# Altium footprint library USB_micro_AB_2040002-1.PcbLib: 1 footprints
Each footprint in its own frame and in the unit in brackets; x right, y up, seen from the top. Pads: shape width x height; smd on the part's side, far side on the other; paste and mask are expansions set on the pad; w line width, h text height; cw(c..) or ccw(c..) is an arc to the next point about the centre after c.
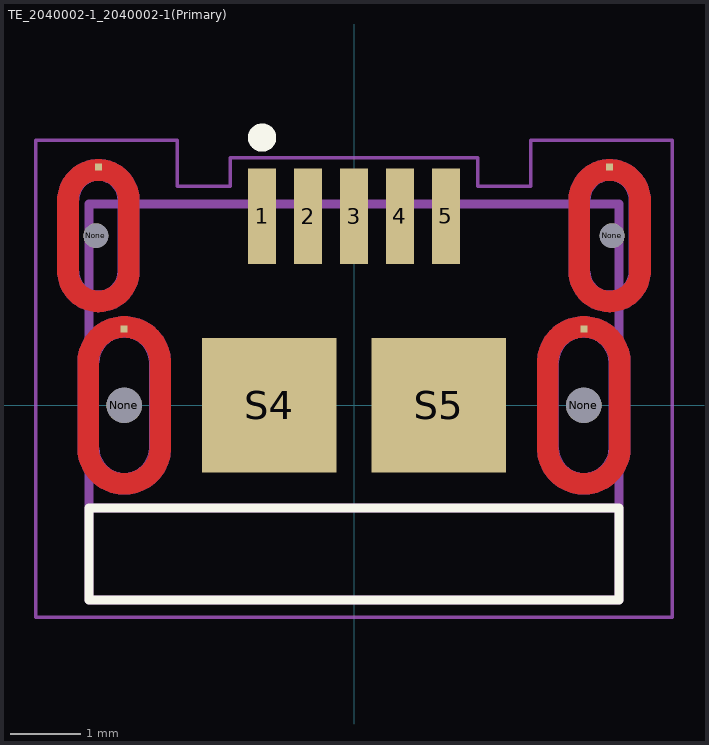
[diagram p0: the footprint, top view; thin cyan lines are the x and y axes]

## TE_2040002-1_2040002-1(Primary) [mm]
pads (15):
  rect 0.4x1.35 smd: 1(-1.3,2.675) 2(-0.65,2.675) 3(0,2.675) 4(0.65,2.675) 5(1.3,2.675)
  round 0.35 hole 0.35 unplated: None(-3.65,2.4) None(3.65,2.4)
  round 0.5 hole 0.5 unplated: None(-3.25,0) None(3.25,0)
  rect 0.1x0.1 smd: S1(-3.25,1.08) S2(3.25,1.08) S3(-3.615,3.369) S6(3.615,3.369)
  rect 1.9x1.9 smd: S4(-1.2,0) S5(1.2,0)
Top Layer:
  region: 257 vertices and 0 holes, not listed, extent 3.035,1.32 4.195,3.48
  region: 257 vertices and 0 holes, not listed, extent -4.195,1.32 -3.035,3.48
  region: 257 vertices and 0 holes, not listed, extent 2.59,-1.26 3.91,1.26
  region: 257 vertices and 0 holes, not listed, extent -3.91,-1.26 -2.59,1.26
Bottom Layer:
  region: 257 vertices and 0 holes, not listed, extent 3.035,1.32 4.195,3.48
  region: 257 vertices and 0 holes, not listed, extent -4.195,1.32 -3.035,3.48
  region: 257 vertices and 0 holes, not listed, extent 2.59,-1.26 3.91,1.26
  region: 257 vertices and 0 holes, not listed, extent -3.91,-1.26 -2.59,1.26
Top Overlay:
  circle w0.2: c-1.3,3.787 r0.1
  lines w0.127: -3.75,-2.75 3.75,-2.75 3.75,-1.45 -3.75,-1.45 -3.75,-2.75
Top Paste:
  drawing of 4 lines, arcs and shapes, not listed
Bottom Paste:
  drawing of 4 lines, arcs and shapes, not listed
Top Solder:
  region: 2.871,3.65 4.365,3.65 4.365,1.152 2.871,1.152
  region: -4.368,3.65 -2.865,3.65 -2.865,1.151 -4.368,1.151
  region: 2.356,1.44 4.15,1.44 4.15,-1.443 2.356,-1.443
  region: -4.164,1.44 -2.35,1.44 -2.35,-1.445 -4.164,-1.445
Bottom Solder:
  region: 2.872,3.65 4.365,3.65 4.365,1.153 2.872,1.153
  region: -4.371,3.65 -2.865,3.65 -2.865,1.152 -4.371,1.152
  region: 2.352,1.44 4.15,1.44 4.15,-1.441 2.352,-1.441
  region: -4.164,1.44 -2.35,1.44 -2.35,-1.445 -4.164,-1.445
Mechanical 1:
  lines w0.127: -3.75,-1.45 3.75,-1.45 ; -3.75,-1.45 -3.75,-2.75 3.75,-2.75 3.75,-1.45 ; -3.75,-1.45 -3.75,2.85 3.75,2.85 3.75,-1.45
  text "PCB EDGE" at -1.274,-2.289 h1.88
Mechanical 4:
  lines w0.01: -3.895,1.9 ccw(c-3.615,1.9) -3.615,1.62 ccw(c-3.615,1.9) -3.335,1.9 -3.335,2.9 ccw(c-3.615,2.9) -3.615,3.18 ccw(c-3.615,2.9) -3.895,2.9 -3.895,1.9 ; -3.61,-0.6 ccw(c-3.25,-0.6) -3.25,-0.96 ccw(c-3.25,-0.6) -2.89,-0.6 -2.89,0.6 ccw(c-3.25,0.6) -3.25,0.96 ccw(c-3.25,0.6) -3.61,0.6 -3.61,-0.6 ; 2.89,-0.6 ccw(c3.25,-0.6) 3.25,-0.96 ccw(c3.25,-0.6) 3.61,-0.6 3.61,0.6 ccw(c3.25,0.6) 3.25,0.96 ccw(c3.25,0.6) 2.89,0.6 2.89,-0.6 ; 3.335,1.9 ccw(c3.615,1.9) 3.615,1.62 ccw(c3.615,1.9) 3.895,1.9 3.895,2.9 ccw(c3.615,2.9) 3.615,3.18 ccw(c3.615,2.9) 3.335,2.9 3.335,1.9
  lines w0.05: -4.5,3.75 -2.5,3.75 -2.5,3.1 -1.75,3.1 -1.75,3.5 1.75,3.5 1.75,3.1 2.5,3.1 2.5,3.75 4.5,3.75 ; -4.475,3.75 ccw(c-4.475,3.725) -4.5,3.725 -4.5,-3 4.5,-3 4.5,3.725